# EAGLE library part DT15-08PA (library DT15-08PA)
Dt Recp Asm
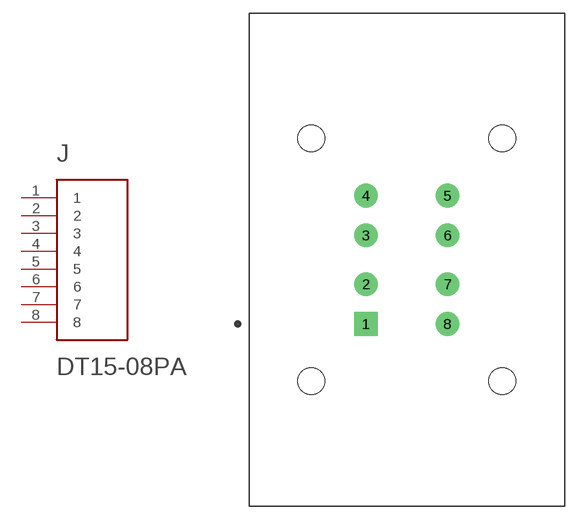
[diagram p0: symbol with the pads of TE_DT15-08PA; footprint TE_DT15-08PA]

Designator prefix J

## DT15-08PA (AVAILABILITY: In stock; DESCRIPTION: Dt Recp Asm; MF: TE Connectivity; MPN: DT15-08PA; PARTREV: D; STANDARD: Manufacturer recommendation)  [TE_DT15-08PA]
1  1  pas
2  2  pas
3  3  pas
4  4  pas
5  5  pas
6  6  pas
7  7  pas
8  8  pas

## Footprint TE_DT15-08PA (pad centres in mm)
drill 1.77 square: 1 -4.56,-7.18
drill 1.77: 2 -4.56,-2.73; 3 -4.56,2.73; 4 -4.56,7.17; 5 4.56,7.17; 6 4.56,2.73; 7 4.56,-2.73; 8 4.56,-7.18
hole 2.99 at -10.67,13.59
hole 2.99 at 10.67,13.59
hole 2.99 at -10.67,-13.59
hole 2.99 at 10.67,-13.59